# EAGLE library part RN-9 (library NASA_LIB)
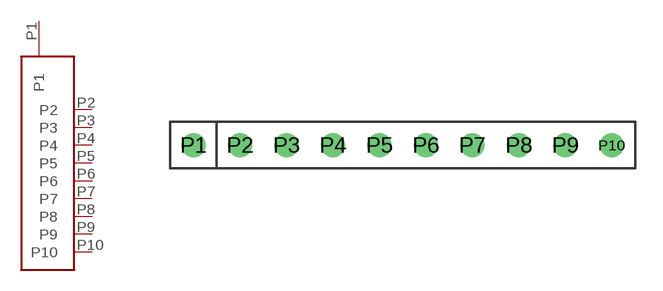
[diagram p20: symbol with the pads of RN-9; footprint RN-9]

Designator prefix -

## RN-9  [RN-9]
P1  P1
P2  P2
P3  P3
P4  P4
P5  P5
P6  P6
P7  P7
P8  P8
P9  P9
P10  P10

## Footprint RN-9 (pad centres in mm)
drill 0.8: P1 -11.43,0; P2 -8.89,0; P3 -6.35,0; P4 -3.81,0; P5 -1.27,0; P6 1.27,0; P7 3.81,0; P8 6.35,0; P9 8.89,0; P10 11.43,0